# EAGLE library part MAX3488 (library Fugu_LSI)
3.3V-Powered, 10Mbps and Slew-Rate-Limited True RS-485/RS-422 Transceivers
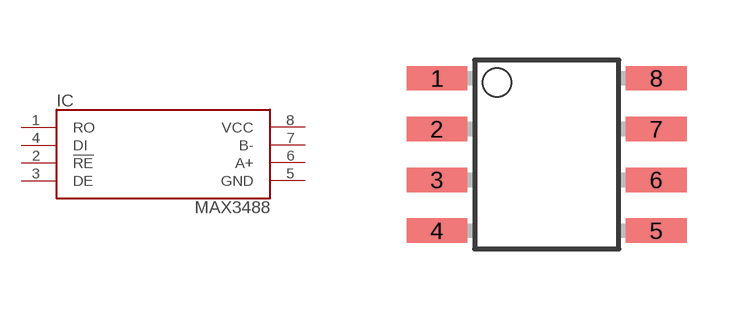
[diagram p40: symbol with the pads of SO-8; footprint SO-8]

Designator prefix IC

## MAX3488  [SO-8]
1  RO  out
2  !RE  in
3  DE  in
4  DI  in
5  GND  sup
6  A+
7  B-
8  VCC  sup

## Footprint SO-8 (pad centres in mm)
SO 8 small outline
smd 1.524 x 0.61: 1 -2.743,1.905; 2 -2.743,0.635; 3 -2.743,-0.635; 4 -2.743,-1.905; 5 2.743,-1.905; 6 2.743,-0.635; 7 2.743,0.635; 8 2.743,1.905